# Altium footprint library US2H.PcbLib: 1 footprints
Each footprint in its own frame and in the unit in brackets; x right, y up, seen from the top. Pads: shape width x height; smd on the part's side, far side on the other; paste and mask are expansions set on the pad; w line width, h text height; cw(c..) or ccw(c..) is an arc to the next point about the centre after c.
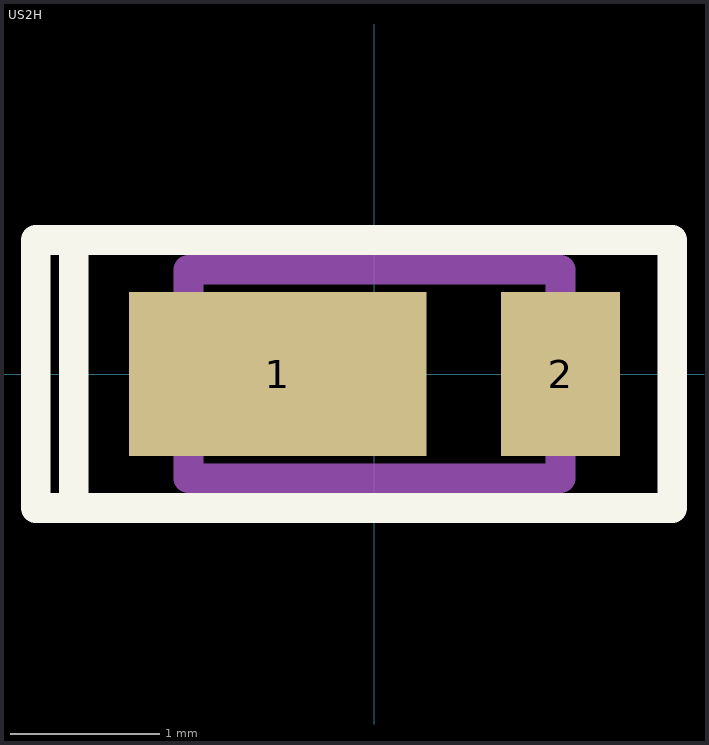
[diagram p0: the footprint, top view; thin cyan lines are the x and y axes]

## US2H [mm] "Footprint for Toshiba CUHZ Series TVS/Zener Diodes"
pads (2):
  rect 2x1.1 smd: 1(-0.65,0)
  rect 0.8x1.1 smd: 2(1.25,0)
Top Overlay:
  lines w0.2: -2.275,-0.3 -2.275,0.3 ; -2.02,-0.875 -2.02,0.875 ; -2.275,0.3 -2.275,0.9 2,0.9 2,-0.9 -2.275,-0.9 -2.275,0.3
Mechanical 13:
  lines w0.2: -1.25,-0.7 1.25,-0.7 1.25,0.7 -1.25,0.7 -1.25,-0.7
  text "'.Designator'" at -2.875,-0.342 h0.7
Mechanical 15:
  lines w0.127: -0.254,0 0,0 ; 0,-0.254 0,0 ; 0,0.254 0,0 ; 0.254,0 0,0
3D body "US2H.step": height 0.6, standoff 0, extent -1.25,-0.7 1.25,0.7